# Altium schematic symbol library AnalogDevices.SchLib: 4 symbols
Pins are listed as number, name and electrical type; pins without a type are passive.

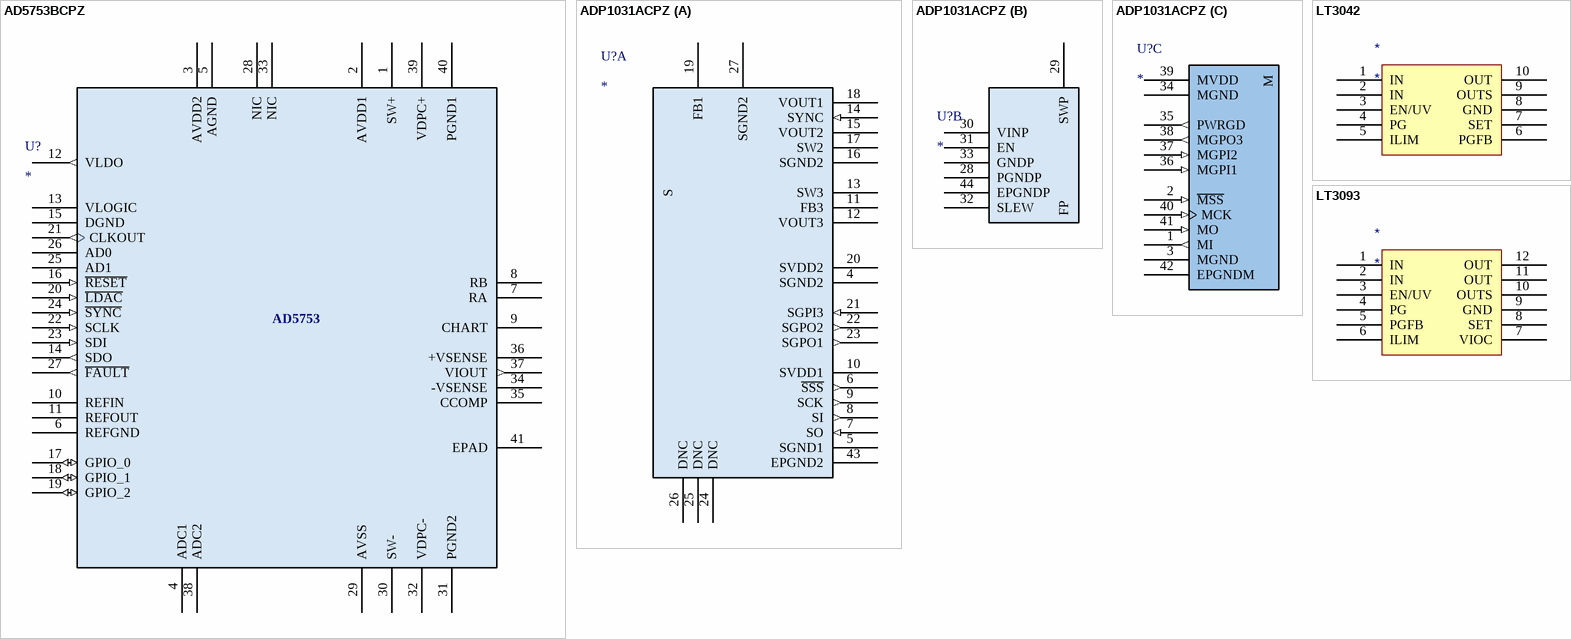
[diagram p0: symbols AD5753BCPZ to LT3093]

## AD5753BCPZ
designator U?
No Description Available; Copyright: Copyright (C) 2018 Accelerated Designs. All rights reserved; RefDes: RefDes; Type: Type; Value: Value
footprint cp_40_15-M
pins: 1 SW+, 2 AVDD1, 3 AVDD2, 4 ADC1, 5 AGND, 6 REFGND, 7 RA, 8 RB, 9 CHART, 10 REFIN, 11 REFOUT, 12 VLDO (out), 13 VLOGIC, 14 SDO (out), 15 DGND (power), 16 ~{RESET} (in), 17 GPIO_0 (io), 18 GPIO_1 (io), 19 GPIO_2 (io), 20 ~{LDAC} (in), 21 CLKOUT (out), 22 SCLK (in), 23 SDI (in), 24 ~{SYNC} (in), 25 AD1, 26 AD0, 27 ~{FAULT} (out), 28 NIC, 29 AVSS, 30 SW-, 31 PGND2, 32 VDPC-, 33 NIC, 34 -VSENSE, 35 CCOMP, 36 +VSENSE, 37 VIOUT (out), 38 ADC2, 39 VDPC+, 40 PGND1, 41 EPAD
text: AD5753

## ADP1031ACPZ
designator U?
No Description Available; Copyright: Copyright (C) 2018 Accelerated Designs. All rights reserved; RefDes: RefDes; Type: DEV; Value: Value
footprint CP_41_1
part A pins: 4 SGND2, 5 SGND1, 6 ~{SSS} (out), 7 SO (in), 8 SI (out), 9 SCK (out), 10 SVDD1 (power), 11 FB3, 12 VOUT3 (power), 13 SW3, 14 SYNC (in), 15 VOUT2 (power), 16 SGND2, 17 SW2, 18 VOUT1 (power), 19 FB1, 20 SVDD2, 21 SGPI3 (in), 22 SGPO2 (out), 23 SGPO1 (out), 24 DNC, 25 DNC, 26 DNC, 27 SGND2, 43 EPGND2
part B pins: 28 PGNDP (power), 29 SWP, 30 VINP (power), 31 EN, 32 SLEW, 33 GNDP, 44 EPGNDP
part C pins: 1 MI (out), 2 ~{MSS} (in), 3 MGND, 34 MGND (power), 35 PWRGD (out), 36 MGPI1 (in), 37 MGPI2 (in), 38 MGPO3 (out), 39 MVDD (power), 40 MCK (in), 41 MO (in), 42 EPGNDM (power)
part A text: S
part B text: FP
part C text: M

## LT3042
designator *
footprint TSSOP50P490X110-10N (TSSOP, 10-Leads, Body 3.00x3.00mm, Pitch 0.50mm, IPC Medium Density)
pins: 1 IN, 2 IN, 3 EN/UV, 4 PG, 5 ILIM, 6 PGFB, 7 SET, 8 GND, 9 OUTS, 10 OUT

## LT3093
designator *
footprint TSOP65P510X110_HS-13N (TSOP, 12-Leads, Body 4.00x3.00mm, Pitch 0.65mm, Thermal Pad 2.95x1.75mm, IPC Medium Density)
pins: 1 IN, 2 IN, 3 EN/UV, 4 PG, 5 PGFB, 6 ILIM, 7 VIOC, 8 SET, 9 GND, 10 OUTS, 11 OUT, 12 OUT